# Altium schematic symbol library SPINNER_TWIN_STARS.SCHLIB: 84 symbols
Pins are listed as number, name and electrical type; pins without a type are passive.

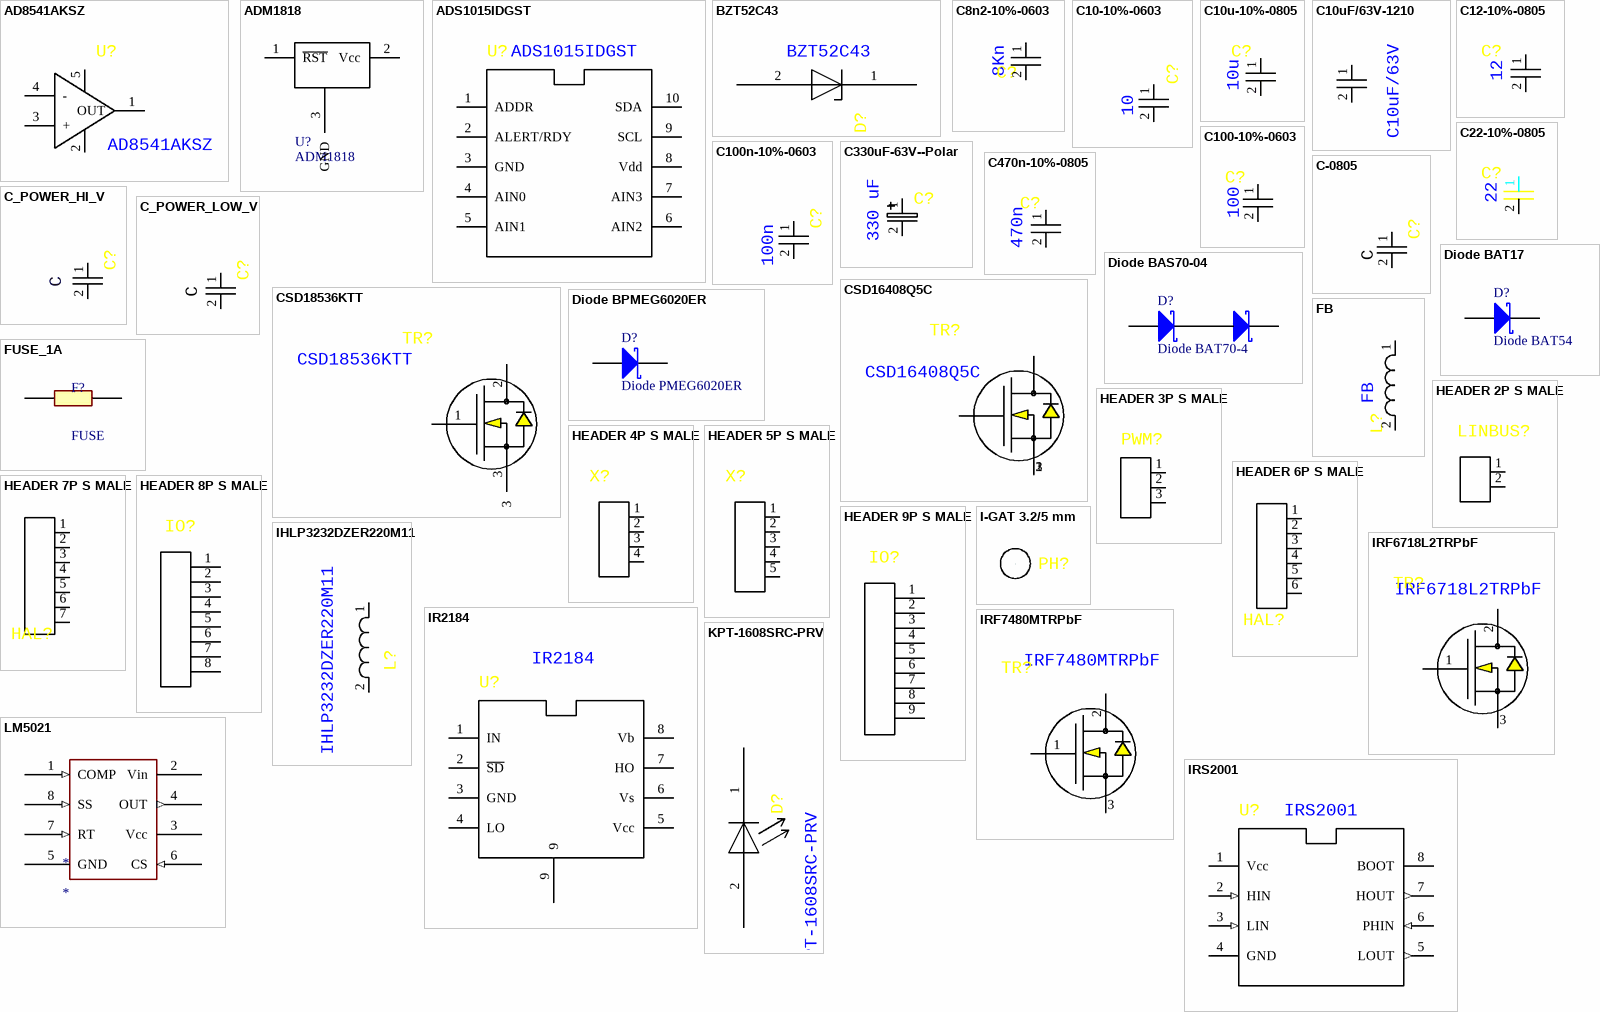
[diagram p0: symbols AD8541AKSZ to LM5021]

## AD8541AKSZ
designator U?
RAIL-TO-RAIL OPERATIONAL AMP; Manufacturer: ANALOG DEVICES; (OldCtfName): (CTF_OLD_NAME_INVALID); Value: AD8541AKSZ
pins: 1 OUT, 2 GND, 3 +, 4 -, 5 Vcc

## ADM1818
designator U?
MCU Reset IC; Note: Pin 2 is not connected and not drawn.; PackageVersion: Sep-2001; PackageReference: SOT-23; PackageDescription: 3-Pin SOT-23 Package 0.95 mm Pitch, 2.5 mm Lead Span; Published: 21-Mar-2003; LatestRevisionDate: 29-May-2009; LatestRevisionNote: IPC-7351 Footprint Added.; DatasheetVersion: Oct-1999
footprint SOT-23_N (SOT23, 3-Leads, Body 2.9x1.3mm, Pitch 0.95mm, Lead Span 2.5mm, IPC Medium Density)
pins: 1 ~{RST}, 2 Vcc, 3 GND

## ADS1015IDGST
designator U?
4 CHAN AD CONVERTER; Manufacturer: TI; (OldCtfName): (CTF_OLD_NAME_INVALID); Value: ADS1015IDGST
footprint VSSOP-10 (GST)
pins: 1 ADDR, 2 ALERT/RDY, 3 GND, 4 AIN0, 5 AIN1, 6 AIN2, 7 AIN3, 8 Vdd, 9 SCL, 10 SDA

## BZT52C43
designator D?
ZENER DIODE 43V; Manufacturer: DIODES; (OldCtfName): (CTF_OLD_NAME_INVALID); Value: BZT52C43
footprint SOD123
pins: 1, 2

## C8n2-10%-0603
designator C?, comment 8Kn
8n2 Surface mount CAP 10% 25V; (OldCtfName): (CTF_OLD_NAME_INVALID); Tolerance: 10%; Voltage: 25V; Value: 8Kn
footprint 1608[0603] (Chip Capacitor, Body 1.6x0.8mm, IPC High Density)
pins: 1, 2

## C10-10%-0603
designator C?, comment 10
10p Surface mount CAP 10% 25V; (OldCtfName): (CTF_OLD_NAME_INVALID); Tolerance: 10%; Voltage: 25V; Value: 10
footprint 1608[0603] (Chip Capacitor, Body 1.6x0.8mm, IPC High Density)
pins: 1, 2

## C10u-10%-0805
designator C?, comment 10u
10u Surface mount CAP 0805 10% 25V; (OldCtfName): (CTF_OLD_NAME_INVALID); Tolerance: 10%; Voltage: 25V; Value: 10u
footprint 6-0805_N (Chip Resistor, Body 2.0x1.2mm, IPC Medium Density)
footprint 0805_N
pins: 1, 2

## C10uF/63V-1210
designator C?, comment C10uF/63V
SURFACE MOUNT CAPACITOR; Voltage: 63V; Tolerance: 20%; (OldCtfName): (CTF_OLD_NAME_INVALID); Value: C10uF/63V
footprint C1210_N (Chip Capacitor, Body 3.2x2.5mm, IPC Medium Density)
pins: 1, 2

## C12-10%-0805
designator C?, comment 12
12p Surface mount CAP 10% 25V; (OldCtfName): (CTF_OLD_NAME_INVALID); Tolerance: 10%; Voltage: 25V; Value: 12
footprint 6-0805_N (Chip Resistor, Body 2.0x1.2mm, IPC Medium Density)
footprint 0805_N
pins: 1, 2

## C22-10%-0805
designator C?, comment 22
22p Surface mount CAP 10% 25V; (OldCtfName): (CTF_OLD_NAME_INVALID); Tolerance: 10%; Voltage: 25V; Value: 22
footprint 6-0805_N (Chip Resistor, Body 2.0x1.2mm, IPC Medium Density)
footprint 0805_N
pins: 1, 2

## C100-10%-0603
designator C?, comment 100
100p Surface mount CAP 10% 25V; (OldCtfName): (CTF_OLD_NAME_INVALID); Tolerance: 10%; Voltage: 25V; Value: 100
footprint 1608[0603] (Chip Capacitor, Body 1.6x0.8mm, IPC High Density)
pins: 1, 2

## C100n-10%-0603
designator C?, comment 100n
100n Surface mount CAP 10% 25V; (OldCtfName): (CTF_OLD_NAME_INVALID); Tolerance: 10%; Voltage: 25V; Value: 100n
footprint 1608[0603] (Chip Capacitor, Body 1.6x0.8mm, IPC High Density)
pins: 1, 2

## C330uF-63V--Polar
designator C?, comment 330 uF
C330uF-63V--Polar; Voltage: 63V; Tolerance: 20%; (OldCtfName): (CTF_OLD_NAME_INVALID); Value: 330 uF
footprint CAP  POLAR 10RM5 (wave)
pins: 1, 2

## C470n-10%-0805
designator C?, comment 470n
470n Surface mount CAP 10% 25V; (OldCtfName): (CTF_OLD_NAME_INVALID); Tolerance: 10%; Voltage: 25V; Value: 470n
footprint 6-0805_N (Chip Resistor, Body 2.0x1.2mm, IPC Medium Density)
footprint 0805_N
pins: 1, 2

## C-0805
designator C?, comment C
Surface mount CAP 10% 25V; (OldCtfName): (CTF_OLD_NAME_INVALID); Tolerance: 10%; Voltage: 25V; Value: C
footprint 1608[0603] (Chip Capacitor, Body 1.6x0.8mm, IPC High Density)
footprint 0805_N (Chip Resistor, Body 2.0x1.2mm, IPC Medium Density)
pins: 1, 2

## C_POWER_HI_V
designator C?, comment C
High Voltage Power CAP; Tolerance: 20%; Voltage: 600; (OldCtfName): (CTF_OLD_NAME_INVALID); Value: C
pins: 1, 2

## C_POWER_LOW_V
designator C?, comment C
Low Voltage Power CAP; Tolerance: 20%; Voltage: 50; (OldCtfName): (CTF_OLD_NAME_INVALID); Value: C
pins: 1, 2

## CSD16408Q5C
designator TR?
N-CHANNEL MOSFET DirectFet; Manufacturer: TI; (OldCtfName): (CTF_OLD_NAME_INVALID); Value: CSD16408Q5C
footprint SON5x6
pins: 1, 2, 3, 4 hidden, 5 hidden, 6 hidden, 7 hidden, 8 hidden

## CSD18536KTT
designator TR?
N-CHANNEL MOSFET DPAK; Manufacturer: TI; (OldCtfName): (CTF_OLD_NAME_INVALID); Value: CSD18536KTT
footprint TO-263 (D2PAK)
footprint DirectFET-E
pins: 1, 2, 3

## Diode BAS70-04
designator D?, comment Diode BAT70-4
Silicon RF Schottky Diode for Mixer Applications in the VHF/UHF Range; Note: Pin 2 is not connected and not drawn.; Published: 21-Mar-2003; LatestRevisionDate: 29-May-2009; LatestRevisionNote: IPC-7351 Footprint Added.; DatasheetVersion: Oct-1999; PackageVersion: Sep-2001; PackageReference: SOT-23; Publisher: Altium Limited; PackageDescription: 3-Pin SOT-23 Package 0.95 mm Pitch, 2.5 mm Lead Span; ComponentLink1Description: Manufacturer Link; ComponentLink1URL: http://www.infineon.com/; ComponentLink2Description: Datasheet; ComponentLink2URL: http://www.infineon.com/upload/Document/cmc_upload/documents/009/363/bat17series.pdf
footprint SOT-23_N (SOT23, 3-Leads, Body 2.9x1.3mm, Pitch 0.95mm, Lead Span 2.5mm, IPC Medium Density)
footprint SOT-23_L (SOT23, 3-Leads, Body 2.9x1.3mm, Pitch 0.95mm, Lead Span 2.5mm, IPC High Density)
footprint SOT-23_M (SOT23, 3-Leads, Body 2.9x1.3mm, Pitch 0.95mm, Lead Span 2.5mm, IPC Low Density)
simulation model D188 (DIODE)
pins: 1 A, 2 K, 3 KA

## Diode BAT17
designator D?, comment Diode BAT54
Silicon RF Schottky Diode for Mixer Applications in the VHF/UHF Range; Note: Pin 2 is not connected and not drawn.; Published: 21-Mar-2003; LatestRevisionDate: 29-May-2009; LatestRevisionNote: IPC-7351 Footprint Added.; DatasheetVersion: Oct-1999; PackageVersion: Sep-2001; PackageReference: SOT-23; Publisher: Altium Limited; PackageDescription: 3-Pin SOT-23 Package 0.95 mm Pitch, 2.5 mm Lead Span; ComponentLink1Description: Manufacturer Link; ComponentLink1URL: http://www.infineon.com/; ComponentLink2Description: Datasheet; ComponentLink2URL: http://www.infineon.com/upload/Document/cmc_upload/documents/009/363/bat17series.pdf
footprint SOT-23_N (SOT23, 3-Leads, Body 2.9x1.3mm, Pitch 0.95mm, Lead Span 2.5mm, IPC Medium Density)
footprint SOT-23_L (SOT23, 3-Leads, Body 2.9x1.3mm, Pitch 0.95mm, Lead Span 2.5mm, IPC High Density)
footprint SOT-23_M (SOT23, 3-Leads, Body 2.9x1.3mm, Pitch 0.95mm, Lead Span 2.5mm, IPC Low Density)
simulation model D188 (DIODE)
pins: 1 A, 3 K

## Diode BPMEG6020ER
designator D?, comment Diode PMEG6020ER
Silicon RF Schottky Diode for Mixer Applications in the VHF/UHF Range; Note: Pin 2 is not connected and not drawn.; Published: 21-Mar-2003; LatestRevisionDate: 29-May-2009; LatestRevisionNote: IPC-7351 Footprint Added.; DatasheetVersion: Oct-1999; PackageVersion: Sep-2001; PackageReference: SOT-23; Publisher: Altium Limited; PackageDescription: 3-Pin SOT-23 Package 0.95 mm Pitch, 2.5 mm Lead Span; ComponentLink1Description: Manufacturer Link; ComponentLink1URL: http://www.infineon.com/; ComponentLink2Description: Datasheet; ComponentLink2URL: http://www.infineon.com/upload/Document/cmc_upload/documents/009/363/bat17series.pdf
pins: 1 K, 2 A

## FB
designator L?
Ferrite Bead; Tolerance: 20%; Elec_type: 1K; (OldCtfName): (CTF_OLD_NAME_INVALID); Value: FB
footprint 0805_N (Chip Resistor, Body 2.0x1.2mm, IPC Medium Density)
pins: 1, 2

## FUSE_1A
designator F?, comment FUSE
FUSE POLISWITCH
footprint CAPC4532L (Chip Capacitor, Body 4.5x3.2mm, IPC High Density)
pins: 1 A, 2 K

## HEADER 2P S MALE
designator LINBUS?  (value not drawn)
HEADER SINGLE ROW 2P STRAIGHT MALE; Elec_type: ON_BOARD_CONNECTOR; (OldCtfName): (CTF_OLD_NAME_INVALID)
footprint con-srs-2-0254
pins: 1, 2

## HEADER 3P S MALE
designator PWM?  (value not drawn)
HEADER SINGLE ROW 3P STRAIGHT MALE; Elec_type: ON_BOARD_CONNECTOR; (OldCtfName): (CTF_OLD_NAME_INVALID)
footprint con-srs-3-0254
pins: 1, 2, 3

## HEADER 4P S MALE
designator X?  (value not drawn)
HEADER SINGLE ROW 4P STRAIGHT MALE; Elec_type: ON_BOARD_CONNECTOR; (OldCtfName): (CTF_OLD_NAME_INVALID)
footprint con-srs-4-0254
pins: 1, 2, 3, 4

## HEADER 5P S MALE
designator X?  (value not drawn)
HEADER SINGLE ROW 4P STRAIGHT MALE; Elec_type: ON_BOARD_CONNECTOR; (OldCtfName): (CTF_OLD_NAME_INVALID)
footprint con-srs-4-0254
footprint CON-SRS-5-0254
pins: 1, 2, 3, 4, 5

## HEADER 6P S MALE
designator HAL?  (value not drawn)
HEADER SINGLE ROW 6P STRAIGHT MALE; Elec_type: ON_BOARD_CONNECTOR; (OldCtfName): (CTF_OLD_NAME_INVALID)
footprint con-srs-6-0254
pins: 1, 2, 3, 4, 5, 6

## HEADER 7P S MALE
designator HAL?  (value not drawn)
HEADER SINGLE ROW 6P STRAIGHT MALE; Elec_type: ON_BOARD_CONNECTOR; (OldCtfName): (CTF_OLD_NAME_INVALID)
footprint CON-SRS-7-0254
pins: 1, 2, 3, 4, 5, 6, 7

## HEADER 8P S MALE
designator IO?  (value not drawn)
HEADER SINGLE ROW 8P STRAIGHT MALE; Elec_type: ON_BOARD_CONNECTOR; (OldCtfName): (CTF_OLD_NAME_INVALID)
footprint con-srs-8-0254
pins: 1, 2, 3, 4, 5, 6, 7, 8

## HEADER 9P S MALE
designator IO?  (value not drawn)
HEADER SINGLE ROW 8P STRAIGHT MALE; Elec_type: ON_BOARD_CONNECTOR; (OldCtfName): (CTF_OLD_NAME_INVALID)
footprint CON-SRS-9-0254
pins: 1, 2, 3, 4, 5, 6, 7, 8, 9

## I-GAT 3.2/5 mm
designator PH?  (value not drawn)
Hole Plated 3.2 mm x 5 mm; (OldCtfName): (CTF_OLD_NAME_INVALID)
footprint mec-hole3.2mm /5.0 MM
pins: 1

## IHLP3232DZER220M11
designator L?
IHLP3232DZER220M11- 22 uH; Tolerance: 20%; (OldCtfName): (CTF_OLD_NAME_INVALID); Elec_type: IHLP3232DZER220M11; Value: IHLP3232DZER220M11
footprint 3232DZ (3232)
pins: 1, 2

## IR2184
designator U?
DOUBLE MOSFET DRIVED; Manufacturer: TI; (OldCtfName): (CTF_OLD_NAME_INVALID); Value: IR2184
footprint SO8 (reflow)
footprint S_SO8_POWER_PAD (wave)
pins: 1 IN, 2 ~{SD}, 3 GND, 4 LO, 5 Vcc, 6 Vs, 7 HO, 8 Vb, 9

## IRF6718L2TRPbF
designator TR?
N-CHANNEL MOSFET DirectFet; Manufacturer: TI; (OldCtfName): (CTF_OLD_NAME_INVALID); Value: IRF6718L2TRPbF
footprint DirectFET-L6
pins: 1, 2, 3

## IRF7480MTRPbF
designator TR?
N-CHANNEL MOSFET DirectFet; Manufacturer: TI; (OldCtfName): (CTF_OLD_NAME_INVALID); Value: IRF7480MTRPbF
footprint DirectFET-E
pins: 1, 2, 3

## IRS2001
designator U?
DOUBLE MOSFET DRIVED; Manufacturer: TI; (OldCtfName): (CTF_OLD_NAME_INVALID); Value: IRS2001
footprint SO8 (reflow)
footprint S_SO8_POWER_PAD (wave)
pins: 1 Vcc (power), 2 HIN (in), 3 LIN (in), 4 GND (power), 5 LOUT (out), 6 PHIN (in), 7 HOUT (out), 8 BOOT (power)

## KPT-1608SRC-PRV
designator D?
LED SMD RED        0603; Manufacturer: KINGBRIGHT; (OldCtfName): (CTF_OLD_NAME_INVALID); Value: KPT-1608SRC-PRV
pins: 1, 2

## LM5021
designator *
PWM Controller
footprint SO8 (REFLOW)
pins: 1 COMP (in), 2 Vin, 3 Vcc (power), 4 OUT (out), 5 GND (power), 6 CS (in), 7 RT (in), 8 SS (in)

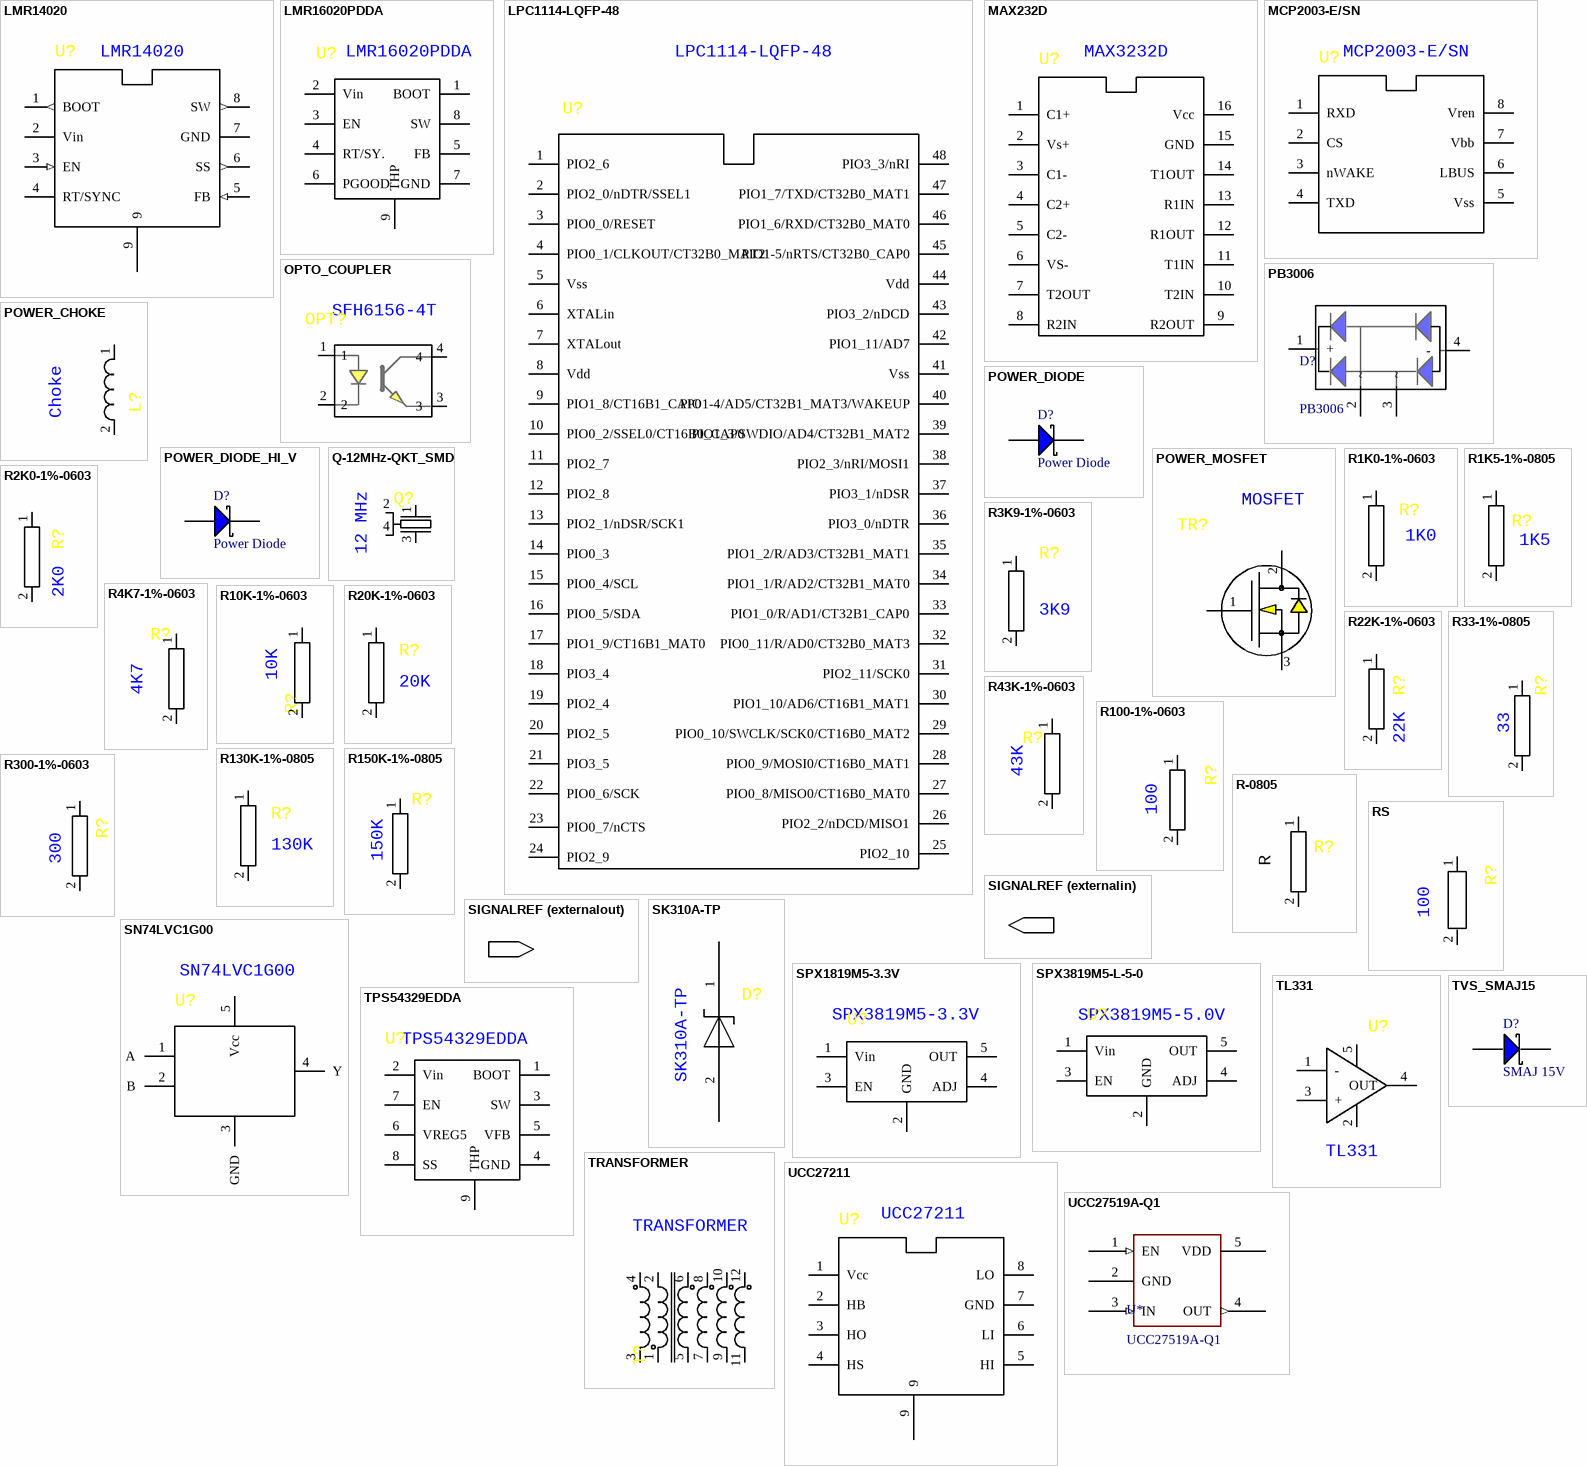
[diagram p1: symbols LMR14020 to UCC27519A-Q1]

## LMR14020
designator U?
4-40V to 3.3V Buck; Manufacturer: TI; (OldCtfName): (CTF_OLD_NAME_INVALID); Value: LMR14020
footprint S_SO8_POWER_PAD (wave)
pins: 1 BOOT (out), 2 Vin (power), 3 EN (in), 4 RT/SYNC (power), 5 FB (in), 6 SS (out), 7 GND (power), 8 SW (out), 9 (power)

## LMR16020PDDA
designator U?
POS STEP DOWN CONVERTER ADJUSTABLE; Manufacturer: TI; (OldCtfName): (CTF_OLD_NAME_INVALID); Value: LMR16020PDDA
footprint S_SO8_POWER_PAD (wave)
pins: 1 BOOT, 2 Vin, 3 EN, 4 RT/SY., 5 FB, 6 PGOOD, 7 GND, 8 SW, 9 THP

## LPC1114-LQFP-48
designator U?
NXP ARM 32BIT MPU; (OldCtfName): (CTF_OLD_NAME_INVALID); Manufacturer: NXP; Value: LPC1114-LQFP-48
footprint LQFP48_N (Thin QFP, 48-Leads, Body 7x7mm, Pitch 0.5mm, IPC Medium Density)
pins: 1 PIO2_6, 2 PIO2_0/nDTR/SSEL1, 3 PIO0_0/RESET, 4 PIO0_1/CLKOUT/CT32B0_MAT2, 5 Vss, 6 XTALin, 7 XTALout, 8 Vdd, 9 PIO1_8/CT16B1_CAP0, 10 PIO0_2/SSEL0/CT16B0_CAP0, 11 PIO2_7, 12 PIO2_8, 13 PIO2_1/nDSR/SCK1, 14 PIO0_3, 15 PIO0_4/SCL, 16 PIO0_5/SDA, 17 PIO1_9/CT16B1_MAT0, 18 PIO3_4, 19 PIO2_4, 20 PIO2_5, 21 PIO3_5, 22 PIO0_6/SCK, 23 PIO0_7/nCTS, 24 PIO2_9, 25 PIO2_10, 26 PIO2_2/nDCD/MISO1, 27 PIO0_8/MISO0/CT16B0_MAT0, 28 PIO0_9/MOSI0/CT16B0_MAT1, 29 PIO0_10/SWCLK/SCK0/CT16B0_MAT2, 30 PIO1_10/AD6/CT16B1_MAT1, 31 PIO2_11/SCK0, 32 PIO0_11/R/AD0/CT32B0_MAT3, 33 PIO1_0/R/AD1/CT32B1_CAP0, 34 PIO1_1/R/AD2/CT32B1_MAT0, 35 PIO1_2/R/AD3/CT32B1_MAT1, 36 PIO3_0/nDTR, 37 PIO3_1/nDSR, 38 PIO2_3/nRI/MOSI1, 39 PIO1_3/SWDIO/AD4/CT32B1_MAT2, 40 PIO1-4/AD5/CT32B1_MAT3/WAKEUP, 41 Vss, 42 PIO1_11/AD7, 43 PIO3_2/nDCD, 44 Vdd, 45 PIO1-5/nRTS/CT32B0_CAP0, 46 PIO1_6/RXD/CT32B0_MAT0, 47 PIO1_7/TXD/CT32B0_MAT1, 48 PIO3_3/nRI

## MAX232D
designator U?, comment MAX3232D
RS-232 TRANSCEIVER; Manufacturer: TEXAS; thm_power_diss: 0.2275; (OldCtfName): (CTF_OLD_NAME_INVALID); Value: MAX3232D
pins: 1 C1+, 2 Vs+, 3 C1-, 4 C2+, 5 C2-, 6 VS-, 7 T2OUT, 8 R2IN, 9 R2OUT, 10 T2IN, 11 T1IN, 12 R1OUT, 13 R1IN, 14 T1OUT, 15 GND, 16 Vcc

## MCP2003-E/SN
designator U?
LIN DRIVER; Manufacturer: MICROCHIP; (OldCtfName): (CTF_OLD_NAME_INVALID); Value: MCP2003-E/SN
pins: 1 RXD, 2 CS, 3 nWAKE, 4 TXD, 5 Vss, 6 LBUS, 7 Vbb, 8 Vren

## OPTO_COUPLER
designator OPT?, comment SFH6156-4T
OPTO COUPLER; Manufacturer: Vishay; (OldCtfName): (CTF_OLD_NAME_INVALID); Value: SFH6156-4T
footprint OPT4PIN (OPTO COUPLER 4 PIN)
pins: 1, 2, 3, 4

## PB3006
designator D?
Bridge Rectifier; Value: PB3006
footprint PB3006 (Bridge Rectifier)
pins: 1 +, 2 ~, 3 ~, 4 -

## POWER_CHOKE
designator L?, comment Choke
Power Choke; Tolerance: 20%; (OldCtfName): (CTF_OLD_NAME_INVALID); Value: Choke
pins: 1, 2

## POWER_DIODE
designator D?, comment Power Diode
Power Schottky Diode; Value: Power Diode
pins: 1 A, 3 K

## POWER_DIODE_HI_V
designator D?, comment Power Diode
Power Schottky Diode; Value: Power Diode
pins: 1 A, 3 K

## POWER_MOSFET
designator TR?, comment MOSFET
N-CHANNEL MOSFET; Manufacturer: TI; (OldCtfName): (CTF_OLD_NAME_INVALID); Value: MOSFET
footprint TO-263 (D2PAK)
pins: 1, 2, 3

## Q-12MHz-QKT_SMD
designator Q?, comment 12 MHz
Quartz resonator QKT SMD case; (OldCtfName): (CTF_OLD_NAME_INVALID); Value: 12 MHz
footprint QUARTZ SMD QKT (QKT)
pins: 1, 2, 3, 4

## R1K0-1%-0603
designator R?, comment 1K0
1K0 SMD 0603 1%; Wattage: 0.065W; (OldCtfName): (CTF_OLD_NAME_INVALID); Tolerance: 1%; Value: 1K0
footprint 1608[0603] (Chip Capacitor, Body 1.6x0.8mm, IPC High Density)
pins: 1, 2

## R1K5-1%-0805
designator R?, comment 1K5
1K5 SMD 0805 1%; Wattage: 0.25W; (OldCtfName): (CTF_OLD_NAME_INVALID); Tolerance: 1%; Value: 1K5
footprint 1608[0603] (Chip Capacitor, Body 1.6x0.8mm, IPC High Density)
pins: 1, 2

## R2K0-1%-0603
designator R?, comment 2K0
2K0 SMD 0603 1%; Wattage: 0.065W; (OldCtfName): (CTF_OLD_NAME_INVALID); Tolerance: 1%; Value: 2K0
footprint 1608[0603] (Chip Capacitor, Body 1.6x0.8mm, IPC High Density)
pins: 1, 2

## R3K9-1%-0603
designator R?, comment 3K9
3K9 SMD 0603 1%; Wattage: 0.065W; (OldCtfName): (CTF_OLD_NAME_INVALID); Tolerance: 1%; Value: 3K9
footprint 1608[0603] (Chip Capacitor, Body 1.6x0.8mm, IPC High Density)
pins: 1, 2

## R4K7-1%-0603
designator R?, comment 4K7
4K7 SMD 0603 1%; Wattage: 0.065W; (OldCtfName): (CTF_OLD_NAME_INVALID); Tolerance: 1%; Value: 4K7
footprint 1608[0603] (Chip Capacitor, Body 1.6x0.8mm, IPC High Density)
pins: 1, 2

## R10K-1%-0603
designator R?, comment 10K
10K SMD 0603 1%; Wattage: 0.065W; (OldCtfName): (CTF_OLD_NAME_INVALID); Tolerance: 1%; Value: 10K
footprint 1608[0603] (Chip Capacitor, Body 1.6x0.8mm, IPC High Density)
pins: 1, 2

## R20K-1%-0603
designator R?, comment 20K
20K SMD 0603 1%; Wattage: 0.065W; (OldCtfName): (CTF_OLD_NAME_INVALID); Tolerance: 1%; Value: 20K
footprint 1608[0603] (Chip Capacitor, Body 1.6x0.8mm, IPC High Density)
pins: 1, 2

## R22K-1%-0603
designator R?, comment 22K
22K SMD 0603 1%; Wattage: 0.065W; (OldCtfName): (CTF_OLD_NAME_INVALID); Tolerance: 1%; Value: 22K
footprint 1608[0603] (Chip Capacitor, Body 1.6x0.8mm, IPC High Density)
pins: 1, 2

## R33-1%-0805
designator R?, comment 33
33R SMD 0805 1%; Wattage: 0.25W; (OldCtfName): (CTF_OLD_NAME_INVALID); Tolerance: 1%; Value: 33
footprint 6-0805_N (Chip Resistor, Body 2.0x1.2mm, IPC Medium Density)
footprint 0805_N
pins: 1, 2

## R43K-1%-0603
designator R?, comment 43K
43K SMD 0603 1%; Wattage: 0.065W; (OldCtfName): (CTF_OLD_NAME_INVALID); Tolerance: 1%; Value: 43K
footprint 1608[0603] (Chip Capacitor, Body 1.6x0.8mm, IPC High Density)
pins: 1, 2

## R100-1%-0603
designator R?, comment 100
100R SMD 0603 1%; Wattage: 0.065W; (OldCtfName): (CTF_OLD_NAME_INVALID); Tolerance: 1%; Value: 100
footprint 6-0805_N (Chip Resistor, Body 2.0x1.2mm, IPC Medium Density)
footprint 1608[0603] (Chip Capacitor, Body 1.6x0.8mm, IPC High Density)
pins: 1, 2

## R130K-1%-0805
designator R?, comment 130K
130K SMD 0805 1%; Wattage: 0.25W; (OldCtfName): (CTF_OLD_NAME_INVALID); Tolerance: 1%; Value: 130K
footprint 6-0805_N (Chip Resistor, Body 2.0x1.2mm, IPC Medium Density)
footprint 1608[0603] (Chip Capacitor, Body 1.6x0.8mm, IPC High Density)
pins: 1, 2

## R150K-1%-0805
designator R?, comment 150K
150K SMD 0805 1%; Wattage: 0.25W; (OldCtfName): (CTF_OLD_NAME_INVALID); Tolerance: 1%; Value: 150K
footprint 6-0805_N (Chip Resistor, Body 2.0x1.2mm, IPC Medium Density)
footprint 1608[0603] (Chip Capacitor, Body 1.6x0.8mm, IPC High Density)
pins: 1, 2

## R300-1%-0603
designator R?, comment 300
300R SMD 0603 1%; Wattage: 0.065W; (OldCtfName): (CTF_OLD_NAME_INVALID); Tolerance: 1%; Value: 300
footprint 1608[0603] (Chip Capacitor, Body 1.6x0.8mm, IPC High Density)
pins: 1, 2

## R-0805
designator R?, comment R
SMD 0805 1%; Wattage: 0.25W; (OldCtfName): (CTF_OLD_NAME_INVALID); Tolerance: 1%; Value: R
footprint 1608[0603] (Chip Capacitor, Body 1.6x0.8mm, IPC High Density)
pins: 1, 2

## RS
designator R?, comment 100
100R SMD 0603 1%; Wattage: 0.065W; (OldCtfName): (CTF_OLD_NAME_INVALID); Tolerance: 1%; Value: 100
footprint 6-0805_N (Chip Resistor, Body 2.0x1.2mm, IPC Medium Density)
footprint 1608[0603] (Chip Capacitor, Body 1.6x0.8mm, IPC High Density)
pins: 1, 2

## SIGNALREF (externalin)
designator ?  (graphical)
pins: 1

## SIGNALREF (externalout)
designator ?  (graphical)
pins: 1

## SK310A-TP
designator D?
SHOTTKY DIODE 100V/3A; Manufacturer: MCC; (OldCtfName): (CTF_OLD_NAME_INVALID); Value: SK310A-TP
pins: 1, 2

## SN74LVC1G00
designator U?
SINGLE NAND; Manufacturer: TI; (OldCtfName): (CTF_OLD_NAME_INVALID); Value: SN74LVC1G00
footprint S_SOT23-5 (reflow)
pins: 1 A, 2 B, 3 GND, 4 Y, 5 Vcc

## SPX1819M5-3.3V
designator U?, comment SPX3819M5-3.3V
POS VOLTAGE REGULATOR FIXED 3.3V; Manufacturer: EXAR; (OldCtfName): (CTF_OLD_NAME_INVALID); Value: SPX3819M5-3.3V
pins: 1 Vin, 2 GND, 3 EN, 4 ADJ, 5 OUT

## SPX3819M5-L-5-0
designator U?, comment SPX3819M5-5.0V
POS VOLTAGE REGULATOR FIXED 3.3V; Manufacturer: EXAR; (OldCtfName): (CTF_OLD_NAME_INVALID); Value: SPX3819M5-5.0V
footprint S_SOT23-5 (REFLOW)
pins: 1 Vin, 2 GND, 3 EN, 4 ADJ, 5 OUT

## TL331
designator U?
RAIL-TO-RAIL COMPARATOR; Manufacturer: ANALOG DEVICES; (OldCtfName): (CTF_OLD_NAME_INVALID); Value: TL331
footprint S_SOT23-5 (REFLOW)
pins: 1 -, 2 GND, 3 +, 4 OUT, 5 Vcc

## TPS54329EDDA
designator U?
POS STEP DOWN CONVERTER ADJUSTABLE; Manufacturer: TI; (OldCtfName): (CTF_OLD_NAME_INVALID); Value: TPS54329EDDA
footprint S_SO8_POWER_PAD (wave)
pins: 1 BOOT, 2 Vin, 3 SW, 4 GND, 5 VFB, 6 VREG5, 7 EN, 8 SS, 9 THP

## TRANSFORMER
designator T?
FLYBACK TRANSFORMER; Tolerance: 20%; (OldCtfName): (CTF_OLD_NAME_INVALID); Value: TRANSFORMER
footprint ETD44/22/15_coil_former
pins: 1, 2, 3, 4, 5, 6, 7, 8, 9, 10, 11, 12

## TVS_SMAJ15
designator D?, comment SMAJ 15V
TVS
footprint SMA (DO-214-AC/SMA; 2 C-Bend Leads; Body 5 x 2.7 mm, inc. leads (LxW))
pins: 1 A, 2 K

## UCC27211
designator U?
DOUBLE MOSFET DRIVED; Manufacturer: TI; (OldCtfName): (CTF_OLD_NAME_INVALID); Value: UCC27211
footprint SO8 (reflow)
footprint S_SO8_POWER_PAD (wave)
pins: 1 Vcc, 2 HB, 3 HO, 4 HS, 5 HI, 6 LI, 7 GND, 8 LO, 9

## UCC27519A-Q1
designator U*
MOSFET gate driver; Value: UCC27519A-Q1
footprint SO8 (REFLOW)
footprint S_SOT23-5 (REFLOW)
pins: 1 EN (in), 2 GND (power), 3 IN (in), 4 OUT (out), 5 VDD (power)

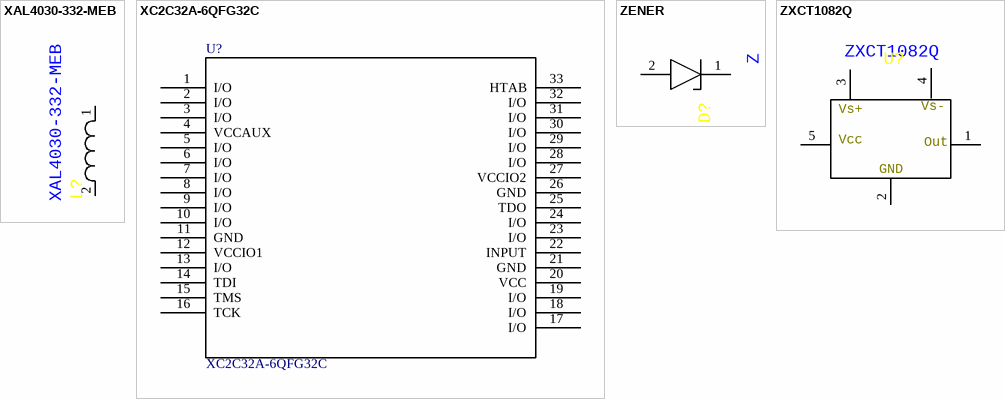
[diagram p2: symbols XAL4030-332-MEB to ZXCT1082Q]

## XAL4030-332-MEB
designator L?
XAL4030-332-MEB - INDUCTOR 33 uH; Tolerance: 20%; (OldCtfName): (CTF_OLD_NAME_INVALID); Elec_type: XAL4030-332-MEB; Value: XAL4030-332-MEB
pins: 1, 2

## XC2C32A-6QFG32C
designator U?
Imported; Vendor: Xilinx Inc; Programmable_Type: In System Programmable; Number_of_Macrocells: 32; Number_of_I_/O: 21; Operating_Temperature: 0Â°C ~ 70Â°C; Names_Registered_&amp;_Trademark_Names: CoolRunner II; Voltage: 1.8V; Memory_Type: CMOS; Delay_Time_tpd(1)_Max: 5.5ns; Voltage_Supply_-_Internal: 1.7 V ~ 1.9 V; Number_of_Logic_Elements/Blocks: 2; Number_of_Gates: 750; Mounting_Type: Surface Mount; C: Copyright (C) 2015 Accelerated Designs. All rights reserved; DigiKeyPartNumber: 122-1412-ND; Manufacturer_Part_Number: XC2C32A-6QFG32C; Quantity_Available: 6031; Copyright: Copyright (C) 2015 Accelerated Designs. All rights reserved; DataSheet: http://www.xilinx.com/support/documentation/data_sheets/ds310.pdf; Number_of_Logic_Blocks/Elements: -; Package_/_Case: 32-VFQFN Exposed Pad; Features: Programmable; Packaging: Tray; Names,_Registered_&amp;_Trademark_Names: CoolRunner II; Supplier_Device_Package: 32-QFN Exposed Pad (5x5); Value: Value; Type: Type; RefDes: RefDes
footprint 32-QFN
pins: 1 I/O, 2 I/O, 3 I/O, 4 VCCAUX, 5 I/O, 6 I/O, 7 I/O, 8 I/O, 9 I/O, 10 I/O, 11 GND, 12 VCCIO1, 13 I/O, 14 TDI, 15 TMS, 16 TCK, 17 I/O, 18 I/O, 19 I/O, 20 VCC, 21 GND, 22 INPUT, 23 I/O, 24 I/O, 25 TDO, 26 GND, 27 VCCIO2, 28 I/O, 29 I/O, 30 I/O, 31 I/O, 32 I/O, 33 HTAB

## ZENER
designator D?, comment Z
ZENER DIODE; Manufacturer: DIODES; (OldCtfName): (CTF_OLD_NAME_INVALID); Value: Z
footprint SOD123
pins: 1, 2

## ZXCT1082Q
designator U?
CURRENT MIRROR ZXCT1082Q; Manufacturer: DIODES Inc; (OldCtfName): (CTF_OLD_NAME_INVALID); Value: ZXCT1082Q
footprint S_SOT23-5 (reflow)
pins: 1, 2, 3, 4, 5
text: Vs+; Vs-; Vcc; Out; GND